# EAGLE library part FM24C512 (library fram)
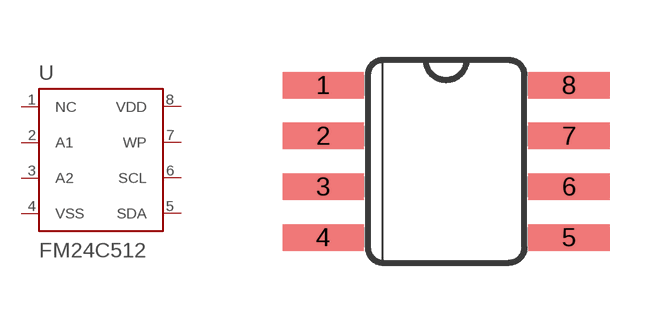
[diagram p0: symbol with the pads of SOIC-8; footprint SOIC-8]

Designator prefix -

## FM24C512  [SOIC-8]
1  NC  nc
2  A1  pas
3  A2  pas
4  VSS  pwr
5  SDA
6  SCL  in
7  WP  pas
8  VDD  pwr

## Footprint SOIC-8 (pad centres in mm)
smd 2.032 x 0.66: 1 -3.073,1.905; 2 -3.073,0.635; 3 -3.073,-0.635; 4 -3.073,-1.905; 5 3.073,-1.905; 6 3.073,-0.635; 7 3.073,0.635; 8 3.073,1.905